# Altium footprint library PcbLib1.PcbLib: 64 footprints (part 2 of 4)
Each footprint in its own frame and in the unit in brackets; x right, y up, seen from the top. Pads: shape width x height; smd on the part's side, far side on the other; paste and mask are expansions set on the pad; w line width, h text height; cw(c..) or ccw(c..) is an arc to the next point about the centre after c.
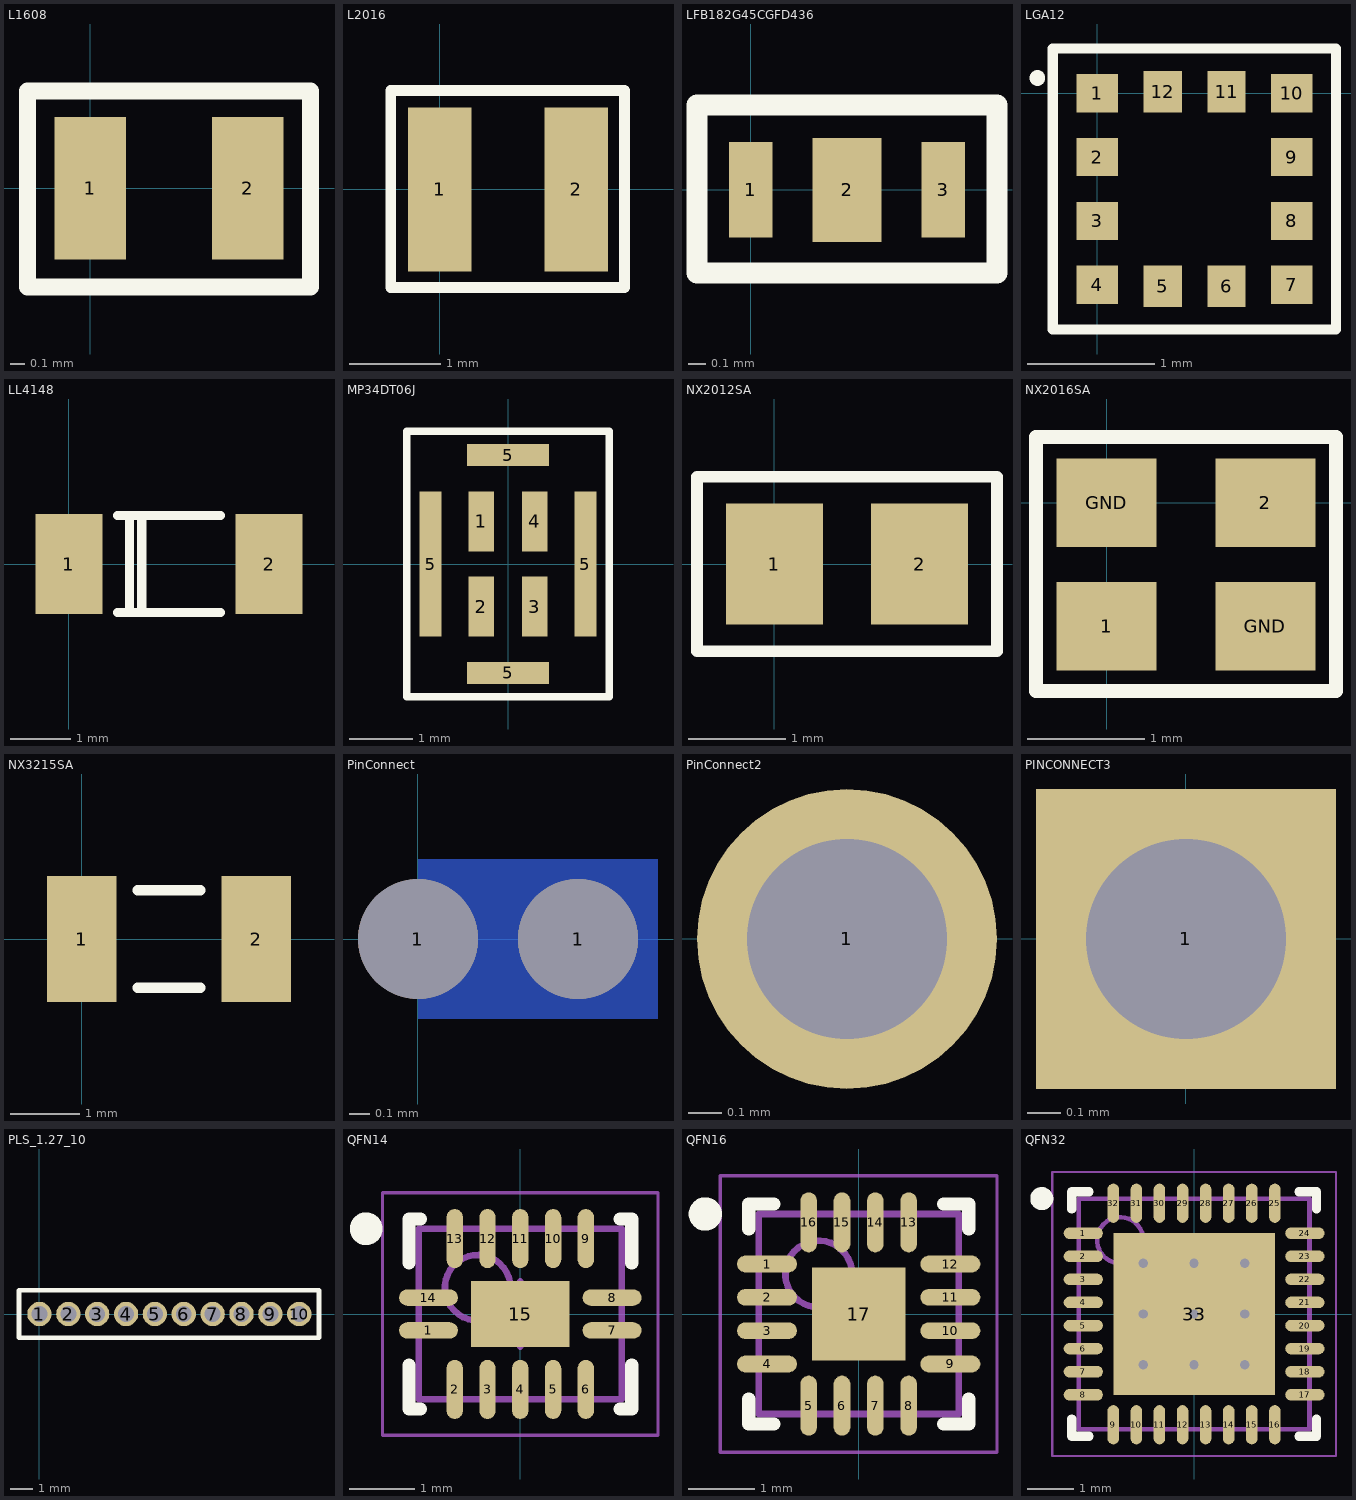
[diagram p1: the footprints below, top view; thin cyan lines are the x and y axes]

## L1608 [mm]
pads (2):
  rect 0.5x1 smd: 1(0,0) 2(1.1,0)
Top Overlay:
  lines w0.12: -0.44,-0.69 -0.44,0.68 1.54,0.68 1.54,-0.69 -0.44,-0.69

## L2016 [mm]
pads (2):
  rect 0.7x1.8 smd: 1(0,0) 2(1.5,0)
Top Overlay:
  lines w0.12: -0.54,-1.08 2.03,-1.08 2.03,1.09 -0.54,1.09 -0.54,-1.08

## LFB182G45CGFD436 [mm]
pads (3):
  rect 0.25x0.55 smd: 1(0,0) 3(1.11,0)
  rect 0.4x0.6 smd: 2(0.555,0)
Top Overlay:
  lines w0.12: -0.31,-0.48 1.42,-0.48 1.42,0.49 -0.31,0.49 -0.31,-0.48

## LGA12 [mm]
pads (12):
  rect 0.325x0.3 smd: 1(0,0) 2(0,-0.5) 3(0,-1) 4(0,-1.5) 7(1.525,-1.5) 8(1.525,-1) 9(1.525,-0.5) 10(1.525,0)
  rect 0.3x0.325 smd: 5(0.513,-1.512) 6(1.012,-1.512) 11(1.012,0.012) 12(0.513,0.012)
Top Overlay:
  circle w0.1: c-0.47,0.12 r0.011
  lines w0.08: -0.35,-1.85 -0.35,0.35 1.87,0.35 1.87,-1.85 -0.35,-1.85

## LL4148 [mm]
pads (2):
  rect 1.1x1.65 smd: 1(0,0) 2(3.3,0)
Top Overlay:
  lines w0.15: 0.8,-0.8 2.5,-0.8 ; 0.8,0.8 2.5,0.8 ; 1,0.8 1,-0.8 1.2,-0.8 1.2,0.8

## MP34DT06J [mm]
pads (8):
  rect 0.4x0.95 smd: 1(-0.425,0.675) 2(-0.425,-0.675) 3(0.425,-0.675) 4(0.425,0.675)
  rect 0.35x2.3 smd: 5(-1.225,0) 5(1.225,0)
  rect 1.3x0.35 smd: 5(0,-1.725) 5(0,1.725)
Top Overlay:
  lines w0.12: -1.6,-2.1 1.6,-2.1 1.6,2.1 -1.6,2.1 -1.6,-2.1

## NX2012SA [mm]
pads (2):
  rect 1x1.25 smd: 1(0,0) 2(1.5,0)
Top Overlay:
  lines w0.12: -0.8,-0.9 -0.8,0.9 2.3,0.9 2.3,-0.9 -0.8,-0.9

## NX2016SA [mm]
pads (4):
  rect 0.85x0.75 smd: 1(0,-1.05) 2(1.35,0) GND(0,0) GND(1.35,-1.05)
Top Overlay:
  lines w0.12: -0.6,-1.6 -0.6,0.56 1.95,0.56 1.95,-1.6 -0.6,-1.6

## NX3215SA [mm]
pads (2):
  rect 1x1.8 smd: 1(0,0) 2(2.5,0)
Top Overlay:
  lines w0.15: 0.8,-0.7 1.7,-0.7 ; 0.8,0.7 1.7,0.7

## PinConnect [mm]
pads (2):
  round 0.6 hole 0.6: 1(0,0) 1(0.8,0)
Bottom Layer:
  rectangle: 0,-0.4 1.2,0.4
Top Solder:
  rectangle: 0,-0.4 1.2,0.4
Bottom Solder:
  rectangle: 0,-0.4 1.2,0.4
Multi-Layer:
  rectangle: 0,-0.4 1.2,0.4

## PinConnect2 [mm]
pads (1):
  round 0.9 hole 0.6: 1(0.8,0)

## PINCONNECT3 [mm]
pads (1):
  rect 0.9x0.9 hole 0.6: 1(0,0)

## PLS_1.27_10 [mm]
pads (10):
  round 1.07 hole 0.7: 1(0,0) 2(1.27,0) 3(2.54,0) 4(3.81,0) 5(5.08,0) 6(6.35,0) 7(7.62,0) 8(8.89,0) 9(10.16,0) 10(11.43,0)
Top Overlay:
  lines w0.2: -0.9,-1.05 12.3,-1.05 12.3,1.05 -0.9,1.05 -0.9,-1.05

## QFN14 [mm]
height 1
pads (15):
  oval 0.9x0.25 smd: 1(-1.4,-0.25) 7(1.4,-0.25) 8(1.4,0.25) 14(-1.4,0.25)
  oval 0.25x0.9 smd: 2(-1,-1.15) 3(-0.5,-1.15) 4(0,-1.15) 5(0.5,-1.15) 6(1,-1.15) 9(1,1.15) 10(0.5,1.15) 11(0,1.15) 12(-0.5,1.15) 13(-1,1.15)
  rect 1.5x1 smd: 15(0,0)
Top Overlay:
  circle w0.25: c-2.35,1.3 r0.125
  lines w0.2: -1.7,-0.775 -1.7,-1.45 -1.525,-1.45 ; -1.7,0.775 -1.7,1.45 -1.525,1.45 ; 1.525,-1.45 1.7,-1.45 1.7,-0.775 ; 1.525,1.45 1.7,1.45 1.7,0.775
Mechanical 13:
  circle w0.1: c-0.65,0.4 r0.5
  lines w0.1: -1.55,-1.3 -1.55,1.3 1.55,1.3 1.55,-1.3 -1.55,-1.3
Mechanical 15:
  lines w0.05: -2.1,-1.85 -2.1,1.85 2.1,1.85 2.1,-1.85 -2.1,-1.85
  lines w0.1: -0.5,0 0.5,0 ; 0,-0.5 0,0.5
3D body: height 1, standoff 0.05, extent -1.55,-1.3 1.55,1.3

## QFN16 [mm]
height 0.9
pads (17):
  oval 0.9x0.25 smd: 1(-1.375,0.75) 2(-1.375,0.25) 3(-1.375,-0.25) 4(-1.375,-0.75) 9(1.375,-0.75) 10(1.375,-0.25) 11(1.375,0.25) 12(1.375,0.75)
  oval 0.25x0.9 smd: 5(-0.75,-1.375) 6(-0.25,-1.375) 7(0.25,-1.375) 8(0.75,-1.375) 13(0.75,1.375) 14(0.25,1.375) 15(-0.25,1.375) 16(-0.75,1.375)
  rect 1.4x1.4 smd: 17(0,0)
Top Overlay:
  circle w0.25: c-2.3,1.5 r0.125
  lines w0.2: -1.65,-1.275 -1.65,-1.65 -1.275,-1.65 ; -1.65,1.275 -1.65,1.65 -1.275,1.65 ; 1.275,-1.65 1.65,-1.65 1.65,-1.275 ; 1.275,1.65 1.65,1.65 1.65,1.275
Mechanical 13:
  circle w0.1: c-0.6,0.6 r0.5
  lines w0.1: -1.5,-1.5 -1.5,1.5 1.5,1.5 1.5,-1.5 -1.5,-1.5
Mechanical 15:
  lines w0.05: -2.075,-2.075 -2.075,2.075 2.075,2.075 2.075,-2.075 -2.075,-2.075
  lines w0.1: -0.5,0 0.5,0 ; 0,-0.5 0,0.5
3D body: height 0.9, standoff 0.05, extent -1.5,-1.5 1.5,1.5

## QFN32 [mm]
height 0.9
pads (33):
  oval 0.85x0.25 smd: 1(-2.4,1.75) 2(-2.4,1.25) 3(-2.4,0.75) 4(-2.4,0.25) 5(-2.4,-0.25) 6(-2.4,-0.75) 7(-2.4,-1.25) 8(-2.4,-1.75) 17(2.4,-1.75) 18(2.4,-1.25) 19(2.4,-0.75) 20(2.4,-0.25) 21(2.4,0.25) 22(2.4,0.75) 23(2.4,1.25) 24(2.4,1.75)
  oval 0.25x0.85 smd: 9(-1.75,-2.4) 10(-1.25,-2.4) 11(-0.75,-2.4) 12(-0.25,-2.4) 13(0.25,-2.4) 14(0.75,-2.4) 15(1.25,-2.4) 16(1.75,-2.4) 25(1.75,2.4) 26(1.25,2.4) 27(0.75,2.4) 28(0.25,2.4) 29(-0.25,2.4) 30(-0.75,2.4) 31(-1.25,2.4) 32(-1.75,2.4)
  rect 3.5x3.5 smd: 33(0,0)
via 1.1,-1.1 diameter 0.5 hole 0.2
via 0,-1.1 diameter 0.5 hole 0.2
via -1.1,-1.1 diameter 0.5 hole 0.2
via 1.1,0 diameter 0.5 hole 0.2
via 0,0 diameter 0.5 hole 0.2
via -1.1,0 diameter 0.5 hole 0.2
via 1.1,1.1 diameter 0.5 hole 0.2
via 0,1.1 diameter 0.5 hole 0.2
via -1.1,1.1 diameter 0.5 hole 0.2
Top Overlay:
  circle w0.25: c-3.3,2.5 r0.125
  lines w0.2: -2.65,-2.275 -2.65,-2.65 -2.275,-2.65 ; -2.65,2.275 -2.65,2.65 -2.275,2.65 ; 2.275,-2.65 2.65,-2.65 2.65,-2.275 ; 2.275,2.65 2.65,2.65 2.65,2.275
Mechanical 13:
  circle w0.1: c-1.6,1.6 r0.5
  lines w0.1: -2.5,-2.5 2.5,-2.5 2.5,2.5 -2.5,2.5 -2.5,-2.5
Mechanical 15:
  lines w0.05: -3.075,-3.075 3.075,-3.075 3.075,3.075 -3.075,3.075 -3.075,-3.075
  lines w0.1: -0.5,0 0.5,0 ; 0,-0.5 0,0.5
3D body: height 0.9, standoff 0.05, extent -2.5,-2.5 2.5,2.5